# Altium integrated library Analog Devices Data Converters Digital-to-Analog Converters.IntLib: 2231 symbols (part 50 of 181)
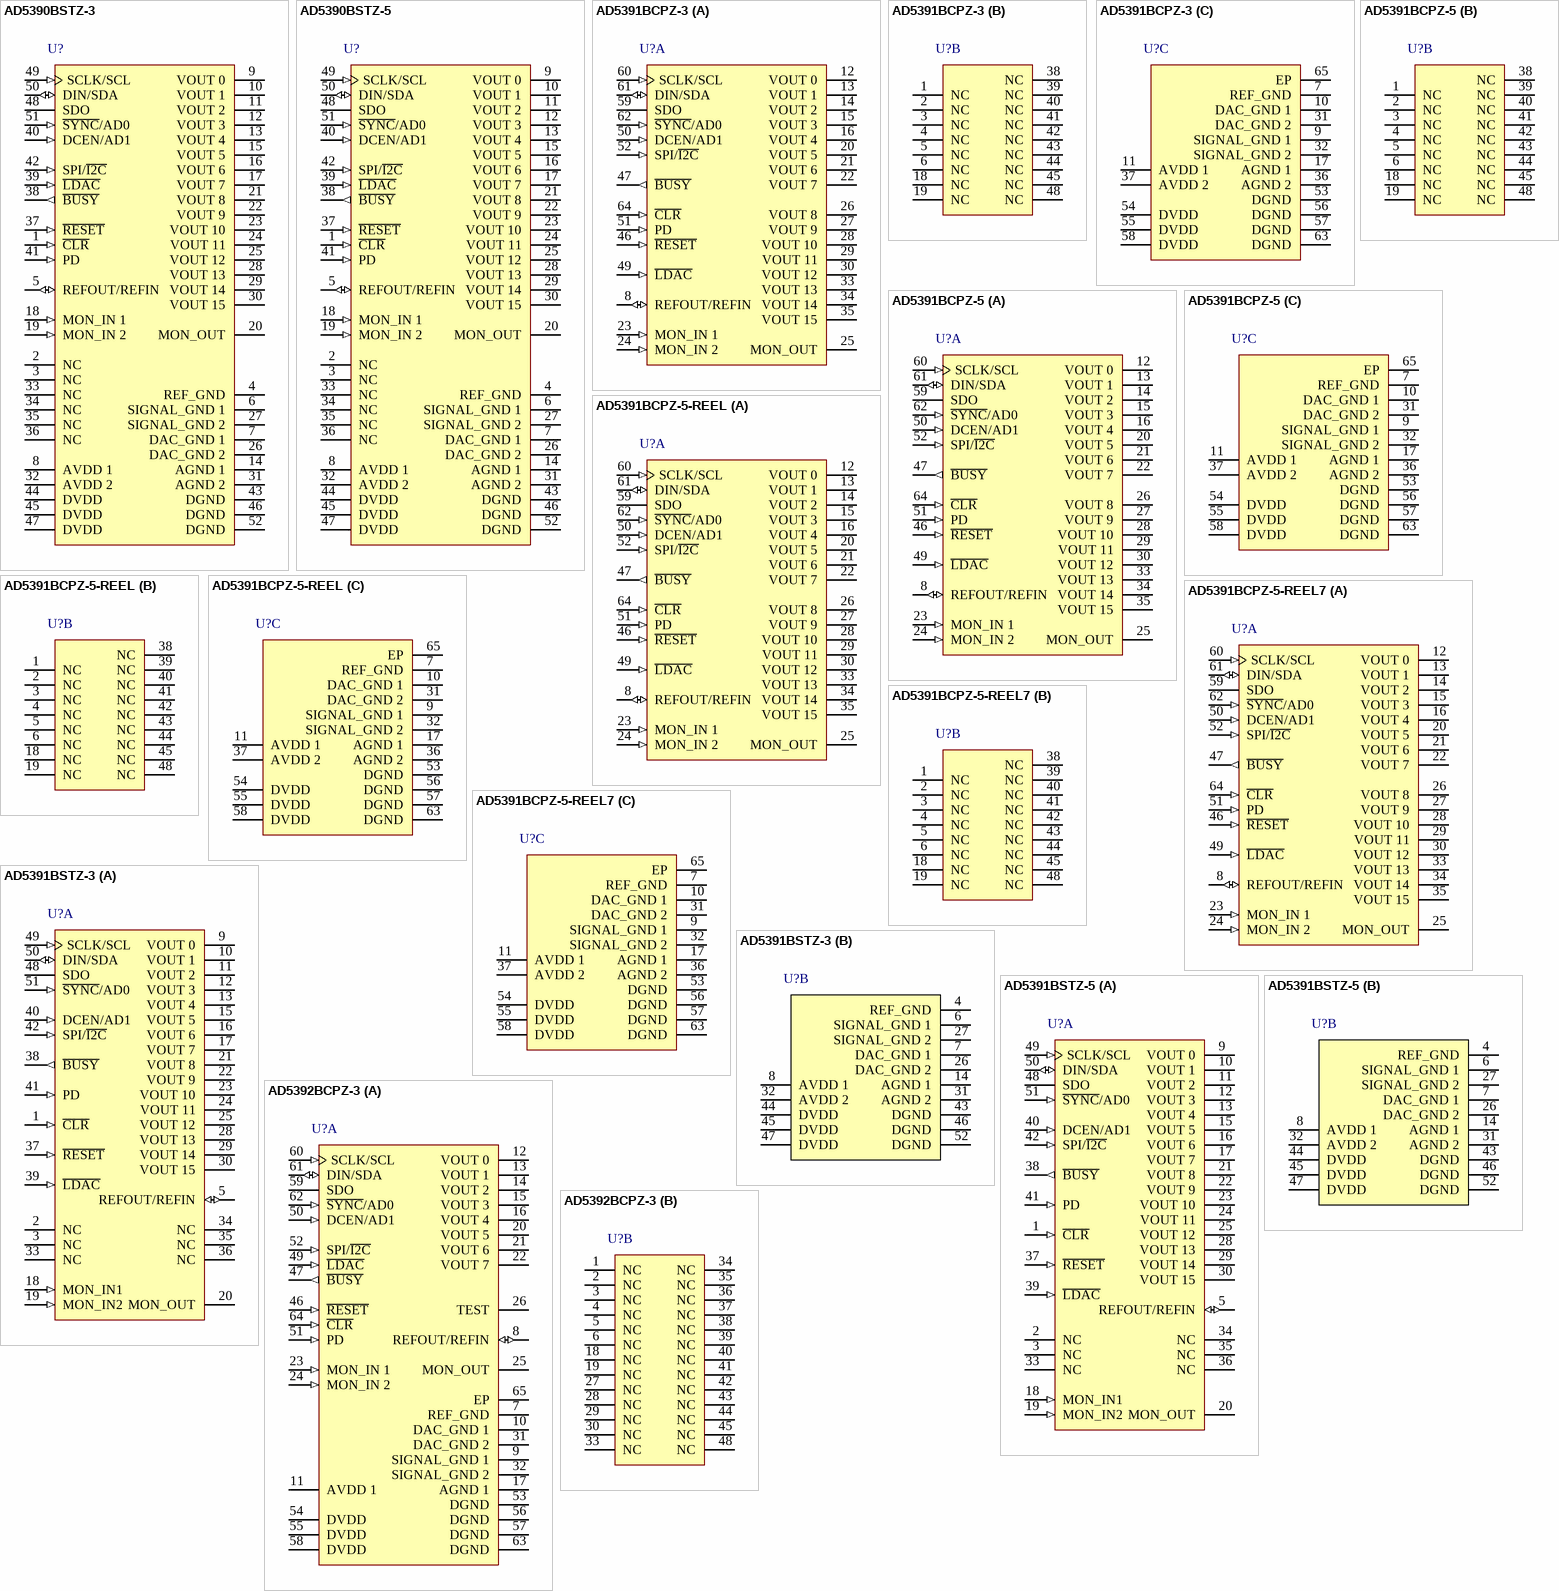
[diagram p163: symbols AD5390BSTZ-3 to AD5392BCPZ-3]

## AD5391BCPZ-5
designator U?
16 Channel 12-Bit Single-Supply Voltage Output Digital-to-Analog Converter with Serial Interface, 5 V, -40 to +85 degC, CP-64-3, Pb-Free, Tray; Generic Part Number: AD5391; Manufacturer: Analog Devices; PartNumber: AD5391BCPZ-5; # DAC Outputs: 16; Max V+: 5.5V; Resolution (Bits): 12; Settling Time: 6µs; Single Supply: Yes; DatasheetVersion: Rev. D; PackageVersion: 051007-C; PackageReference: CP-64-3; PackageDescription: 64-Lead Lead Frame Chip Scale Package [LFCSP_VQ] 9 x 9 mm Body, Very Thin Quad; Supplier 1: Digi-Key; Supplier Part Number 1: AD5391BCPZ-5-ND; Supplier 2: Farnell; Supplier Part Number 2: 1438370; Supplier 3: Newark; Supplier Part Number 3: 59K4070; Supplier 4: Mouser; Supplier Part Number 4: 584-AD5391BCPZ-5; Packing: Tray; RoHS: Y; Mounting Technology: Surface Mount; Code_JEDEC: MO-220-VMMD-4; ComponentLink1Description: Manufacturer URL; ComponentLink1URL: http://www.analog.com/en/index.html; ComponentLink2Description: Datasheet; ComponentLink2URL: http://www.analog.com/static/imported-files/data_sheets/AD5390_5391_5392.pdf; ComponentLink3Description: Package Specification; ComponentLink3URL: http://www.analog.com/static/imported-files/packages/PKG_PDF/LFCSP(CP)/CP_64_3.pdf; ComponentLink4Description: Product URL; ComponentLink4URL: http://www.analog.com/en/digital-to-analog-converters/da-converters/ad5391/products/product.html; ComponentLink5Description: Reference Design URL; ComponentLink5URL: http://www.analog.com/en/digital-to-analog-converters/da-converters/ad5391/products/product.html#prod_cross_sell
footprint CP-64-3_N (QFN, 64-Leads, Body 9x9mm, Pitch 0.5mm, Thermal Pad 7.1x7.1mm, IPC Medium Density)
footprint CP-64-3_L (QFN, 64-Leads, Body 9x9mm, Pitch 0.5mm, Thermal Pad 7.1x7.1mm, IPC High Density)
footprint CP-64-3_M (QFN, 64-Leads, Body 9x9mm, Pitch 0.5mm, Thermal Pad 7.1x7.1mm, IPC Low Density)
part A pins: 8 REFOUT/REFIN (io) "The AD5391 contains a common REFOUT/REFIN pin. When the internal reference is selected, this pin is the reference  output. If the application necessitates the use of an external reference, it can be applied to this pin and (See Datasheet)", 12 VOUT 0 (hiz) "Buffered Analog Outputs for Channel 0. Each analog output is driven by a rail-to-rail output amplifier operating at a gain  of 2. Each output is capable of driving an output load of 5 kohm to ground. Typical output impedance (See Datasheet)", 13 VOUT 1 (hiz) "Buffered Analog Outputs for Channel 1. Each analog output is driven by a rail-to-rail output amplifier operating at a gain  of 2. Each output is capable of driving an output load of 5 kohm to ground. Typical output impedance (See Datasheet)", 14 VOUT 2 (hiz) "Buffered Analog Outputs for Channel 2. Each analog output is driven by a rail-to-rail output amplifier operating at a gain  of 2. Each output is capable of driving an output load of 5 kohm to ground. Typical output impedance (See Datasheet)", 15 VOUT 3 (hiz) "Buffered Analog Outputs for Channel 3. Each analog output is driven by a rail-to-rail output amplifier operating at a gain  of 2. Each output is capable of driving an output load of 5 kohm to ground. Typical output impedance (See Datasheet)", 16 VOUT 4 (hiz) "Buffered Analog Outputs for Channel 4. Each analog output is driven by a rail-to-rail output amplifier operating at a gain  of 2. Each output is capable of driving an output load of 5 kohm to ground. Typical output impedance (See Datasheet)", 20 VOUT 5 (hiz) "Buffered Analog Outputs for Channel 5. Each analog output is driven by a rail-to-rail output amplifier operating at a gain  of 2. Each output is capable of driving an output load of 5 kohm to ground. Typical output impedance (See Datasheet)", 21 VOUT 6 (hiz) "Buffered Analog Outputs for Channel 6. Each analog output is driven by a rail-to-rail output amplifier operating at a gain  of 2. Each output is capable of driving an output load of 5 kohm to ground. Typical output impedance (See Datasheet)", 22 VOUT 7 (hiz) "Buffered Analog Outputs for Channel 7. Each analog output is driven by a rail-to-rail output amplifier operating at a gain  of 2. Each output is capable of driving an output load of 5 kohm to ground. Typical output impedance (See Datasheet)", 23 MON_IN 1 (in) "Monitor Input Pins. The AD5391 contains two monitor input pins to which the user can connect input signals (within the  maximum ratings of the device) for monitoring purposes. Any of the signals applied to the MON_IN pins (See Datasheet)", 24 MON_IN 2 (in) "Monitor Input Pins. The AD5391 contains two monitor input pins to which the user can connect input signals (within the  maximum ratings of the device) for monitoring purposes. Any of the signals applied to the MON_IN pins (See Datasheet)", 25 MON_OUT (hiz) "Analog Output Pin. When the monitor function is enabled on the AD5390/AD5391, the MON_OUT acts as the output of  a 16-to-1 channel multiplexer that can be programmed to multiplex any channel output to the MON_OUT pin. When (See Datasheet)", 26 VOUT 8 (hiz) "Buffered Analog Outputs for Channel 8. Each analog output is driven by a rail-to-rail output amplifier operating at a gain  of 2. Each output is capable of driving an output load of 5 kohm to ground. Typical output impedance (See Datasheet)", 27 VOUT 9 (hiz) "Buffered Analog Outputs for Channel 9. Each analog output is driven by a rail-to-rail output amplifier operating at a gain  of 2. Each output is capable of driving an output load of 5 kohm to ground. Typical output impedance (See Datasheet)", 28 VOUT 10 (hiz) "Buffered Analog Outputs for Channel 10. Each analog output is driven by a rail-to-rail output amplifier operating at a gain  of 2. Each output is capable of driving an output load of 5 kohm to ground. Typical output (See Datasheet)", 29 VOUT 11 (hiz) "Buffered Analog Outputs for Channel 11. Each analog output is driven by a rail-to-rail output amplifier operating at a gain  of 2. Each output is capable of driving an output load of 5 kohm to ground. Typical output (See Datasheet)", 30 VOUT 12 (hiz) "Buffered Analog Outputs for Channel 12. Each analog output is driven by a rail-to-rail output amplifier operating at a gain  of 2. Each output is capable of driving an output load of 5 kohm to ground. Typical output (See Datasheet)", 33 VOUT 13 (hiz) "Buffered Analog Outputs for Channel 13. Each analog output is driven by a rail-to-rail output amplifier operating at a gain  of 2. Each output is capable of driving an output load of 5 kohm to ground. Typical output (See Datasheet)", 34 VOUT 14 (hiz) "Buffered Analog Outputs for Channel 14. Each analog output is driven by a rail-to-rail output amplifier operating at a gain  of 2. Each output is capable of driving an output load of 5 kohm to ground. Typical output (See Datasheet)", 35 VOUT 15 (hiz) "Buffered Analog Outputs for Channel 15. Each analog output is driven by a rail-to-rail output amplifier operating at a gain  of 2. Each output is capable of driving an output load of 5 kohm to ground. Typical output (See Datasheet)", 46 ~{RESET} (in) "Asynchronous Digital Reset Input (falling edge sensitive). The function of this pin is equivalent to that of the power-on reset generator. When this pin is taken low, the state machine initiates a reset sequence to digitally (See Datasheet)", 47 ~{BUSY} (out) "Digital CMOS Output. B\U\S\Y\ goes low during internal calculations of the data (x2) loaded to the DAC data register. During this time, the user can continue writing new data to further the x1, c, and m registers (these are (See Datasheet)", 49 ~{LDAC} (in) "Load DAC Logic Input (active low). If L\D\A\C\ is taken low while B\U\S\Y\ is inactive (high), the contents of the input registers are transferred to the DAC registers and the DAC outputs are updated. If L\D\A\C\ is taken (See Datasheet)", 50 DCEN/AD1 (in) "Interface Control Pin. Operation is determined by the interface select bit SPI/I\2\C\.  Serial Interface Mode: Daisy-Chain Select Input (level-sensitive, active high). When high, this pin enables daisy-chain  operation to (See Datasheet)", 51 PD (in) "Power-Down (level-sensitive, active high). Used to place the device in low power mode, in which the device consumes  1 uA analog current and 20 uA digital current. In power-down mode, all internal analog circuitry is placed (See Datasheet)", 52 SPI/~{I2C} (in) "Interface Select Input Pin. When this input is low, I2C mode is selected. When this input is high, SPI mode is selected.", 59 SDO (hiz) "Serial Data Output. Three-state CMOS output. SDO can be used for daisy-chaining a number of devices together. Data is  clocked out on SDO on the rising edge of SCLK and is valid on the falling edge of SCLK.", 60 SCLK/SCL (in) "Interface Clock Input Pin. In SPI-compatible serial interface mode, this pin acts as a serial clock input. It operates at clock  speeds up to 50 MHz.  I2C mode: In I2C mode, this pin performs the SCL function, clocking data (See Datasheet)", 61 DIN/SDA (io) "Interface Data Input Pin. SPI/I\2\C\ = 1: This pin acts as the serial data input. Data must be valid on the falling edge of SCLK. SPI/I\2\C\ = 0, I2C mode: In I2C mode, this pin is the serial data pin (SDA) operating as an (See Datasheet)", 62 ~{SYNC}/AD0 (in) "Serial Interface Pin. This is the frame synchronization input signal for the serial interface. When taken low, the internal  counter is enabled to count the required number of clocks before the addressed register is updated. (See Datasheet)", 64 ~{CLR} (in) "Asynchronous Clear Input. The C\L\R\ input is falling edge sensitive. While C\L\R\ is low, all L\D\A\C\ pulses are ignored. When C\L\R\ is activated, all channels are updated with the data contained in the C\L\R\ code (See Datasheet)"
part B pins: 1 NC "No Connect. These pins have no internal connection.", 2 NC "No Connect. These pins have no internal connection.", 3 NC "No Connect. These pins have no internal connection.", 4 NC "No Connect. These pins have no internal connection.", 5 NC "No Connect. These pins have no internal connection.", 6 NC "No Connect. These pins have no internal connection.", 18 NC "No Connect. These pins have no internal connection.", 19 NC "No Connect. These pins have no internal connection.", 38 NC "No Connect. These pins have no internal connection.", 39 NC "No Connect. These pins have no internal connection.", 40 NC "No Connect. These pins have no internal connection.", 41 NC "No Connect. These pins have no internal connection.", 42 NC "No Connect. These pins have no internal connection.", 43 NC "No Connect. These pins have no internal connection.", 44 NC "No Connect. These pins have no internal connection.", 45 NC "No Connect. These pins have no internal connection.", 48 NC "No Connect. These pins have no internal connection."
part C pins: 7 REF_GND (power) "Ground Reference Point for the Internal Reference. Connect to AGND.", 9 SIGNAL_GND 1 (power) "Analog Ground Reference Points for each group of eight output channels. All SIGNAL_GND pins are tied together  internally and should be connected to the AGND plane as close as possible to the AD5391.", 10 DAC_GND 1 (power) "Each group of eight channels contains a DAC_GND pin. This is the ground reference point for the internal 14-bit DACs.  These pins should be connected to the AGND plane.", 11 AVDD 1 (power) "Analog Supply Pins. Each group of eight channels has a separate AVDD pin. These pins should be decoupled with 0.1 uF  ceramic capacitors and 10 µF tantalum capacitors. Operating range is 5 V +/- 10%.", 17 AGND 1 (power) "Analog Ground Reference Point. Each group of eight channels contains an AGND pin. All AGND pins should be  connected externally to the AGND plane.", 31 DAC_GND 2 (power) "Each group of eight channels contains a DAC_GND pin. This is the ground reference point for the internal 14-bit DACs.  These pins should be connected to the AGND plane.", 32 SIGNAL_GND 2 (power) "Analog Ground Reference Points for each group of eight output channels. All SIGNAL_GND pins are tied together  internally and should be connected to the AGND plane as close as possible to the AD5391.", 36 AGND 2 (power) "Analog Ground Reference Point. Each group of eight channels contains an AGND pin. All AGND pins should be  connected externally to the AGND plane.", 37 AVDD 2 (power) "Analog Supply Pins. Each group of eight channels has a separate AVDD pin. These pins should be decoupled with 0.1 uF  ceramic capacitors and 10 µF tantalum capacitors. Operating range is 5 V +/- 10%.", 53 DGND (power) "Ground for All Digital Circuitry.", 54 DVDD (power) "Logic Power Supply. Guaranteed operating range is 2.7 V to 5.5 V. Recommended that these pins be decoupled with  0.1 uF ceramic capacitors and 10 uF tantalum capacitors to DGND.", 55 DVDD (power) "Logic Power Supply. Guaranteed operating range is 2.7 V to 5.5 V. Recommended that these pins be decoupled with  0.1 uF ceramic capacitors and 10 uF tantalum capacitors to DGND.", 56 DGND (power) "Ground for All Digital Circuitry.", 57 DGND (power) "Ground for All Digital Circuitry.", 58 DVDD (power) "Logic Power Supply. Guaranteed operating range is 2.7 V to 5.5 V. Recommended that these pins be decoupled with  0.1 µF ceramic capacitors and 10 µF tantalum capacitors to DGND.", 63 DGND (power) "Ground for All Digital Circuitry.", 65 EP (power) "This pad should be connected to the ground plane."

## AD5391BCPZ-5-REEL
designator U?
16 Channel 12-Bit Single-Supply Voltage Output Digital-to-Analog Converter with Serial Interface, 5 V, -40 to +85 degC, CP-64-3, Pb-Free, Reel; Generic Part Number: AD5391; Manufacturer: Analog Devices; PartNumber: AD5391BCPZ-5-REEL; # DAC Outputs: 16; Max V+: 5.5V; Resolution (Bits): 12; Settling Time: 6µs; Single Supply: Yes; DatasheetVersion: Rev. D; PackageVersion: 051007-C; PackageReference: CP-64-3; PackageDescription: 64-Lead Lead Frame Chip Scale Package [LFCSP_VQ] 9 x 9 mm Body, Very Thin Quad; Supplier 1: Digi-Key; Supplier Part Number 1: AD5391BCPZ-5-REEL-ND; Supplier 2: Mouser; Supplier Part Number 2: 584-AD5391BCPZ-5-R; Packing: Reel; RoHS: Y; Mounting Technology: Surface Mount; Code_JEDEC: MO-220-VMMD-4; ComponentLink1Description: Manufacturer URL; ComponentLink1URL: http://www.analog.com/en/index.html; ComponentLink2Description: Datasheet; ComponentLink2URL: http://www.analog.com/static/imported-files/data_sheets/AD5390_5391_5392.pdf; ComponentLink3Description: Package Specification; ComponentLink3URL: http://www.analog.com/static/imported-files/packages/PKG_PDF/LFCSP(CP)/CP_64_3.pdf; ComponentLink4Description: Product URL; ComponentLink4URL: http://www.analog.com/en/digital-to-analog-converters/da-converters/ad5391/products/product.html; ComponentLink5Description: Reference Design URL; ComponentLink5URL: http://www.analog.com/en/digital-to-analog-converters/da-converters/ad5391/products/product.html#prod_cross_sell
footprint CP-64-3_N (QFN, 64-Leads, Body 9x9mm, Pitch 0.5mm, Thermal Pad 7.1x7.1mm, IPC Medium Density)
footprint CP-64-3_L (QFN, 64-Leads, Body 9x9mm, Pitch 0.5mm, Thermal Pad 7.1x7.1mm, IPC High Density)
footprint CP-64-3_M (QFN, 64-Leads, Body 9x9mm, Pitch 0.5mm, Thermal Pad 7.1x7.1mm, IPC Low Density)
part A pins: 8 REFOUT/REFIN (io) "The AD5391 contains a common REFOUT/REFIN pin. When the internal reference is selected, this pin is the reference  output. If the application necessitates the use of an external reference, it can be applied to this pin and (See Datasheet)", 12 VOUT 0 (hiz) "Buffered Analog Outputs for Channel 0. Each analog output is driven by a rail-to-rail output amplifier operating at a gain  of 2. Each output is capable of driving an output load of 5 kohm to ground. Typical output impedance (See Datasheet)", 13 VOUT 1 (hiz) "Buffered Analog Outputs for Channel 1. Each analog output is driven by a rail-to-rail output amplifier operating at a gain  of 2. Each output is capable of driving an output load of 5 kohm to ground. Typical output impedance (See Datasheet)", 14 VOUT 2 (hiz) "Buffered Analog Outputs for Channel 2. Each analog output is driven by a rail-to-rail output amplifier operating at a gain  of 2. Each output is capable of driving an output load of 5 kohm to ground. Typical output impedance (See Datasheet)", 15 VOUT 3 (hiz) "Buffered Analog Outputs for Channel 3. Each analog output is driven by a rail-to-rail output amplifier operating at a gain  of 2. Each output is capable of driving an output load of 5 kohm to ground. Typical output impedance (See Datasheet)", 16 VOUT 4 (hiz) "Buffered Analog Outputs for Channel 4. Each analog output is driven by a rail-to-rail output amplifier operating at a gain  of 2. Each output is capable of driving an output load of 5 kohm to ground. Typical output impedance (See Datasheet)", 20 VOUT 5 (hiz) "Buffered Analog Outputs for Channel 5. Each analog output is driven by a rail-to-rail output amplifier operating at a gain  of 2. Each output is capable of driving an output load of 5 kohm to ground. Typical output impedance (See Datasheet)", 21 VOUT 6 (hiz) "Buffered Analog Outputs for Channel 6. Each analog output is driven by a rail-to-rail output amplifier operating at a gain  of 2. Each output is capable of driving an output load of 5 kohm to ground. Typical output impedance (See Datasheet)", 22 VOUT 7 (hiz) "Buffered Analog Outputs for Channel 7. Each analog output is driven by a rail-to-rail output amplifier operating at a gain  of 2. Each output is capable of driving an output load of 5 kohm to ground. Typical output impedance (See Datasheet)", 23 MON_IN 1 (in) "Monitor Input Pins. The AD5391 contains two monitor input pins to which the user can connect input signals (within the  maximum ratings of the device) for monitoring purposes. Any of the signals applied to the MON_IN pins (See Datasheet)", 24 MON_IN 2 (in) "Monitor Input Pins. The AD5391 contains two monitor input pins to which the user can connect input signals (within the  maximum ratings of the device) for monitoring purposes. Any of the signals applied to the MON_IN pins (See Datasheet)", 25 MON_OUT (hiz) "Analog Output Pin. When the monitor function is enabled on the AD5390/AD5391, the MON_OUT acts as the output of  a 16-to-1 channel multiplexer that can be programmed to multiplex any channel output to the MON_OUT pin. When (See Datasheet)", 26 VOUT 8 (hiz) "Buffered Analog Outputs for Channel 8. Each analog output is driven by a rail-to-rail output amplifier operating at a gain  of 2. Each output is capable of driving an output load of 5 kohm to ground. Typical output impedance (See Datasheet)", 27 VOUT 9 (hiz) "Buffered Analog Outputs for Channel 9. Each analog output is driven by a rail-to-rail output amplifier operating at a gain  of 2. Each output is capable of driving an output load of 5 kohm to ground. Typical output impedance (See Datasheet)", 28 VOUT 10 (hiz) "Buffered Analog Outputs for Channel 10. Each analog output is driven by a rail-to-rail output amplifier operating at a gain  of 2. Each output is capable of driving an output load of 5 kohm to ground. Typical output (See Datasheet)", 29 VOUT 11 (hiz) "Buffered Analog Outputs for Channel 11. Each analog output is driven by a rail-to-rail output amplifier operating at a gain  of 2. Each output is capable of driving an output load of 5 kohm to ground. Typical output (See Datasheet)", 30 VOUT 12 (hiz) "Buffered Analog Outputs for Channel 12. Each analog output is driven by a rail-to-rail output amplifier operating at a gain  of 2. Each output is capable of driving an output load of 5 kohm to ground. Typical output (See Datasheet)", 33 VOUT 13 (hiz) "Buffered Analog Outputs for Channel 13. Each analog output is driven by a rail-to-rail output amplifier operating at a gain  of 2. Each output is capable of driving an output load of 5 kohm to ground. Typical output (See Datasheet)", 34 VOUT 14 (hiz) "Buffered Analog Outputs for Channel 14. Each analog output is driven by a rail-to-rail output amplifier operating at a gain  of 2. Each output is capable of driving an output load of 5 kohm to ground. Typical output (See Datasheet)", 35 VOUT 15 (hiz) "Buffered Analog Outputs for Channel 15. Each analog output is driven by a rail-to-rail output amplifier operating at a gain  of 2. Each output is capable of driving an output load of 5 kohm to ground. Typical output (See Datasheet)", 46 ~{RESET} (in) "Asynchronous Digital Reset Input (falling edge sensitive). The function of this pin is equivalent to that of the power-on reset generator. When this pin is taken low, the state machine initiates a reset sequence to digitally (See Datasheet)", 47 ~{BUSY} (out) "Digital CMOS Output. B\U\S\Y\ goes low during internal calculations of the data (x2) loaded to the DAC data register. During this time, the user can continue writing new data to further the x1, c, and m registers (these are (See Datasheet)", 49 ~{LDAC} (in) "Load DAC Logic Input (active low). If L\D\A\C\ is taken low while B\U\S\Y\ is inactive (high), the contents of the input registers are transferred to the DAC registers and the DAC outputs are updated. If L\D\A\C\ is taken (See Datasheet)", 50 DCEN/AD1 (in) "Interface Control Pin. Operation is determined by the interface select bit SPI/I\2\C\.  Serial Interface Mode: Daisy-Chain Select Input (level-sensitive, active high). When high, this pin enables daisy-chain  operation to (See Datasheet)", 51 PD (in) "Power-Down (level-sensitive, active high). Used to place the device in low power mode, in which the device consumes  1 uA analog current and 20 uA digital current. In power-down mode, all internal analog circuitry is placed (See Datasheet)", 52 SPI/~{I2C} (in) "Interface Select Input Pin. When this input is low, I2C mode is selected. When this input is high, SPI mode is selected.", 59 SDO (hiz) "Serial Data Output. Three-state CMOS output. SDO can be used for daisy-chaining a number of devices together. Data is  clocked out on SDO on the rising edge of SCLK and is valid on the falling edge of SCLK.", 60 SCLK/SCL (in) "Interface Clock Input Pin. In SPI-compatible serial interface mode, this pin acts as a serial clock input. It operates at clock  speeds up to 50 MHz.  I2C mode: In I2C mode, this pin performs the SCL function, clocking data (See Datasheet)", 61 DIN/SDA (io) "Interface Data Input Pin. SPI/I\2\C\ = 1: This pin acts as the serial data input. Data must be valid on the falling edge of SCLK. SPI/I\2\C\ = 0, I2C mode: In I2C mode, this pin is the serial data pin (SDA) operating as an (See Datasheet)", 62 ~{SYNC}/AD0 (in) "Serial Interface Pin. This is the frame synchronization input signal for the serial interface. When taken low, the internal  counter is enabled to count the required number of clocks before the addressed register is updated. (See Datasheet)", 64 ~{CLR} (in) "Asynchronous Clear Input. The C\L\R\ input is falling edge sensitive. While C\L\R\ is low, all L\D\A\C\ pulses are ignored. When C\L\R\ is activated, all channels are updated with the data contained in the C\L\R\ code (See Datasheet)"
part B pins: 1 NC "No Connect. These pins have no internal connection.", 2 NC "No Connect. These pins have no internal connection.", 3 NC "No Connect. These pins have no internal connection.", 4 NC "No Connect. These pins have no internal connection.", 5 NC "No Connect. These pins have no internal connection.", 6 NC "No Connect. These pins have no internal connection.", 18 NC "No Connect. These pins have no internal connection.", 19 NC "No Connect. These pins have no internal connection.", 38 NC "No Connect. These pins have no internal connection.", 39 NC "No Connect. These pins have no internal connection.", 40 NC "No Connect. These pins have no internal connection.", 41 NC "No Connect. These pins have no internal connection.", 42 NC "No Connect. These pins have no internal connection.", 43 NC "No Connect. These pins have no internal connection.", 44 NC "No Connect. These pins have no internal connection.", 45 NC "No Connect. These pins have no internal connection.", 48 NC "No Connect. These pins have no internal connection."
part C pins: 7 REF_GND (power) "Ground Reference Point for the Internal Reference. Connect to AGND.", 9 SIGNAL_GND 1 (power) "Analog Ground Reference Points for each group of eight output channels. All SIGNAL_GND pins are tied together  internally and should be connected to the AGND plane as close as possible to the AD5391.", 10 DAC_GND 1 (power) "Each group of eight channels contains a DAC_GND pin. This is the ground reference point for the internal 14-bit DACs.  These pins should be connected to the AGND plane.", 11 AVDD 1 (power) "Analog Supply Pins. Each group of eight channels has a separate AVDD pin. These pins should be decoupled with 0.1 uF  ceramic capacitors and 10 µF tantalum capacitors. Operating range is 5 V +/- 10%.", 17 AGND 1 (power) "Analog Ground Reference Point. Each group of eight channels contains an AGND pin. All AGND pins should be  connected externally to the AGND plane.", 31 DAC_GND 2 (power) "Each group of eight channels contains a DAC_GND pin. This is the ground reference point for the internal 14-bit DACs.  These pins should be connected to the AGND plane.", 32 SIGNAL_GND 2 (power) "Analog Ground Reference Points for each group of eight output channels. All SIGNAL_GND pins are tied together  internally and should be connected to the AGND plane as close as possible to the AD5391.", 36 AGND 2 (power) "Analog Ground Reference Point. Each group of eight channels contains an AGND pin. All AGND pins should be  connected externally to the AGND plane.", 37 AVDD 2 (power) "Analog Supply Pins. Each group of eight channels has a separate AVDD pin. These pins should be decoupled with 0.1 uF  ceramic capacitors and 10 µF tantalum capacitors. Operating range is 5 V +/- 10%.", 53 DGND (power) "Ground for All Digital Circuitry.", 54 DVDD (power) "Logic Power Supply. Guaranteed operating range is 2.7 V to 5.5 V. Recommended that these pins be decoupled with  0.1 uF ceramic capacitors and 10 uF tantalum capacitors to DGND.", 55 DVDD (power) "Logic Power Supply. Guaranteed operating range is 2.7 V to 5.5 V. Recommended that these pins be decoupled with  0.1 uF ceramic capacitors and 10 uF tantalum capacitors to DGND.", 56 DGND (power) "Ground for All Digital Circuitry.", 57 DGND (power) "Ground for All Digital Circuitry.", 58 DVDD (power) "Logic Power Supply. Guaranteed operating range is 2.7 V to 5.5 V. Recommended that these pins be decoupled with  0.1 µF ceramic capacitors and 10 µF tantalum capacitors to DGND.", 63 DGND (power) "Ground for All Digital Circuitry.", 65 EP (power) "This pad should be connected to the ground plane."

## AD5391BCPZ-5-REEL7
designator U?
16 Channel 12-Bit Single-Supply Voltage Output Digital-to-Analog Converter with Serial Interface, 5 V, -40 to +85 degC, CP-64-3, Pb-Free, Reel; Generic Part Number: AD5391; Manufacturer: Analog Devices; PartNumber: AD5391BCPZ-5-REEL7; # DAC Outputs: 16; Max V+: 5.5V; Resolution (Bits): 12; Settling Time: 6µs; Single Supply: Yes; DatasheetVersion: Rev. D; PackageVersion: 051007-C; PackageReference: CP-64-3; PackageDescription: 64-Lead Lead Frame Chip Scale Package [LFCSP_VQ] 9 x 9 mm Body, Very Thin Quad; Supplier 1: Digi-Key; Supplier Part Number 1: AD5391BCPZ-5-REEL7-ND; Supplier 2: Newark; Supplier Part Number 2: 59K4072; Supplier 3: Mouser; Supplier Part Number 3: 584-AD5391BCPZ5-R7; Packing: Reel; RoHS: Y; Mounting Technology: Surface Mount; Code_JEDEC: MO-220-VMMD-4; ComponentLink1Description: Manufacturer URL; ComponentLink1URL: http://www.analog.com/en/index.html; ComponentLink2Description: Datasheet; ComponentLink2URL: http://www.analog.com/static/imported-files/data_sheets/AD5390_5391_5392.pdf; ComponentLink3Description: Package Specification; ComponentLink3URL: http://www.analog.com/static/imported-files/packages/PKG_PDF/LFCSP(CP)/CP_64_3.pdf; ComponentLink4Description: Product URL; ComponentLink4URL: http://www.analog.com/en/digital-to-analog-converters/da-converters/ad5391/products/product.html; ComponentLink5Description: Reference Design URL; ComponentLink5URL: http://www.analog.com/en/digital-to-analog-converters/da-converters/ad5391/products/product.html#prod_cross_sell
footprint CP-64-3_N (QFN, 64-Leads, Body 9x9mm, Pitch 0.5mm, Thermal Pad 7.1x7.1mm, IPC Medium Density)
footprint CP-64-3_L (QFN, 64-Leads, Body 9x9mm, Pitch 0.5mm, Thermal Pad 7.1x7.1mm, IPC High Density)
footprint CP-64-3_M (QFN, 64-Leads, Body 9x9mm, Pitch 0.5mm, Thermal Pad 7.1x7.1mm, IPC Low Density)
part A pins: 8 REFOUT/REFIN (io) "The AD5391 contains a common REFOUT/REFIN pin. When the internal reference is selected, this pin is the reference  output. If the application necessitates the use of an external reference, it can be applied to this pin and (See Datasheet)", 12 VOUT 0 (hiz) "Buffered Analog Outputs for Channel 0. Each analog output is driven by a rail-to-rail output amplifier operating at a gain  of 2. Each output is capable of driving an output load of 5 kohm to ground. Typical output impedance (See Datasheet)", 13 VOUT 1 (hiz) "Buffered Analog Outputs for Channel 1. Each analog output is driven by a rail-to-rail output amplifier operating at a gain  of 2. Each output is capable of driving an output load of 5 kohm to ground. Typical output impedance (See Datasheet)", 14 VOUT 2 (hiz) "Buffered Analog Outputs for Channel 2. Each analog output is driven by a rail-to-rail output amplifier operating at a gain  of 2. Each output is capable of driving an output load of 5 kohm to ground. Typical output impedance (See Datasheet)", 15 VOUT 3 (hiz) "Buffered Analog Outputs for Channel 3. Each analog output is driven by a rail-to-rail output amplifier operating at a gain  of 2. Each output is capable of driving an output load of 5 kohm to ground. Typical output impedance (See Datasheet)", 16 VOUT 4 (hiz) "Buffered Analog Outputs for Channel 4. Each analog output is driven by a rail-to-rail output amplifier operating at a gain  of 2. Each output is capable of driving an output load of 5 kohm to ground. Typical output impedance (See Datasheet)", 20 VOUT 5 (hiz) "Buffered Analog Outputs for Channel 5. Each analog output is driven by a rail-to-rail output amplifier operating at a gain  of 2. Each output is capable of driving an output load of 5 kohm to ground. Typical output impedance (See Datasheet)", 21 VOUT 6 (hiz) "Buffered Analog Outputs for Channel 6. Each analog output is driven by a rail-to-rail output amplifier operating at a gain  of 2. Each output is capable of driving an output load of 5 kohm to ground. Typical output impedance (See Datasheet)", 22 VOUT 7 (hiz) "Buffered Analog Outputs for Channel 7. Each analog output is driven by a rail-to-rail output amplifier operating at a gain  of 2. Each output is capable of driving an output load of 5 kohm to ground. Typical output impedance (See Datasheet)", 23 MON_IN 1 (in) "Monitor Input Pins. The AD5391 contains two monitor input pins to which the user can connect input signals (within the  maximum ratings of the device) for monitoring purposes. Any of the signals applied to the MON_IN pins (See Datasheet)", 24 MON_IN 2 (in) "Monitor Input Pins. The AD5391 contains two monitor input pins to which the user can connect input signals (within the  maximum ratings of the device) for monitoring purposes. Any of the signals applied to the MON_IN pins (See Datasheet)", 25 MON_OUT (hiz) "Analog Output Pin. When the monitor function is enabled on the AD5390/AD5391, the MON_OUT acts as the output of  a 16-to-1 channel multiplexer that can be programmed to multiplex any channel output to the MON_OUT pin. When (See Datasheet)", 26 VOUT 8 (hiz) "Buffered Analog Outputs for Channel 8. Each analog output is driven by a rail-to-rail output amplifier operating at a gain  of 2. Each output is capable of driving an output load of 5 kohm to ground. Typical output impedance (See Datasheet)", 27 VOUT 9 (hiz) "Buffered Analog Outputs for Channel 9. Each analog output is driven by a rail-to-rail output amplifier operating at a gain  of 2. Each output is capable of driving an output load of 5 kohm to ground. Typical output impedance (See Datasheet)", 28 VOUT 10 (hiz) "Buffered Analog Outputs for Channel 10. Each analog output is driven by a rail-to-rail output amplifier operating at a gain  of 2. Each output is capable of driving an output load of 5 kohm to ground. Typical output (See Datasheet)", 29 VOUT 11 (hiz) "Buffered Analog Outputs for Channel 11. Each analog output is driven by a rail-to-rail output amplifier operating at a gain  of 2. Each output is capable of driving an output load of 5 kohm to ground. Typical output (See Datasheet)", 30 VOUT 12 (hiz) "Buffered Analog Outputs for Channel 12. Each analog output is driven by a rail-to-rail output amplifier operating at a gain  of 2. Each output is capable of driving an output load of 5 kohm to ground. Typical output (See Datasheet)", 33 VOUT 13 (hiz) "Buffered Analog Outputs for Channel 13. Each analog output is driven by a rail-to-rail output amplifier operating at a gain  of 2. Each output is capable of driving an output load of 5 kohm to ground. Typical output (See Datasheet)", 34 VOUT 14 (hiz) "Buffered Analog Outputs for Channel 14. Each analog output is driven by a rail-to-rail output amplifier operating at a gain  of 2. Each output is capable of driving an output load of 5 kohm to ground. Typical output (See Datasheet)", 35 VOUT 15 (hiz) "Buffered Analog Outputs for Channel 15. Each analog output is driven by a rail-to-rail output amplifier operating at a gain  of 2. Each output is capable of driving an output load of 5 kohm to ground. Typical output (See Datasheet)", 46 ~{RESET} (in) "Asynchronous Digital Reset Input (falling edge sensitive). The function of this pin is equivalent to that of the power-on reset generator. When this pin is taken low, the state machine initiates a reset sequence to digitally (See Datasheet)", 47 ~{BUSY} (out) "Digital CMOS Output. B\U\S\Y\ goes low during internal calculations of the data (x2) loaded to the DAC data register. During this time, the user can continue writing new data to further the x1, c, and m registers (these are (See Datasheet)", 49 ~{LDAC} (in) "Load DAC Logic Input (active low). If L\D\A\C\ is taken low while B\U\S\Y\ is inactive (high), the contents of the input registers are transferred to the DAC registers and the DAC outputs are updated. If L\D\A\C\ is taken (See Datasheet)", 50 DCEN/AD1 (in) "Interface Control Pin. Operation is determined by the interface select bit SPI/I\2\C\.  Serial Interface Mode: Daisy-Chain Select Input (level-sensitive, active high). When high, this pin enables daisy-chain  operation to (See Datasheet)", 51 PD (in) "Power-Down (level-sensitive, active high). Used to place the device in low power mode, in which the device consumes  1 uA analog current and 20 uA digital current. In power-down mode, all internal analog circuitry is placed (See Datasheet)", 52 SPI/~{I2C} (in) "Interface Select Input Pin. When this input is low, I2C mode is selected. When this input is high, SPI mode is selected.", 59 SDO (hiz) "Serial Data Output. Three-state CMOS output. SDO can be used for daisy-chaining a number of devices together. Data is  clocked out on SDO on the rising edge of SCLK and is valid on the falling edge of SCLK.", 60 SCLK/SCL (in) "Interface Clock Input Pin. In SPI-compatible serial interface mode, this pin acts as a serial clock input. It operates at clock  speeds up to 50 MHz.  I2C mode: In I2C mode, this pin performs the SCL function, clocking data (See Datasheet)", 61 DIN/SDA (io) "Interface Data Input Pin. SPI/I\2\C\ = 1: This pin acts as the serial data input. Data must be valid on the falling edge of SCLK. SPI/I\2\C\ = 0, I2C mode: In I2C mode, this pin is the serial data pin (SDA) operating as an (See Datasheet)", 62 ~{SYNC}/AD0 (in) "Serial Interface Pin. This is the frame synchronization input signal for the serial interface. When taken low, the internal  counter is enabled to count the required number of clocks before the addressed register is updated. (See Datasheet)", 64 ~{CLR} (in) "Asynchronous Clear Input. The C\L\R\ input is falling edge sensitive. While C\L\R\ is low, all L\D\A\C\ pulses are ignored. When C\L\R\ is activated, all channels are updated with the data contained in the C\L\R\ code (See Datasheet)"
part B pins: 1 NC "No Connect. These pins have no internal connection.", 2 NC "No Connect. These pins have no internal connection.", 3 NC "No Connect. These pins have no internal connection.", 4 NC "No Connect. These pins have no internal connection.", 5 NC "No Connect. These pins have no internal connection.", 6 NC "No Connect. These pins have no internal connection.", 18 NC "No Connect. These pins have no internal connection.", 19 NC "No Connect. These pins have no internal connection.", 38 NC "No Connect. These pins have no internal connection.", 39 NC "No Connect. These pins have no internal connection.", 40 NC "No Connect. These pins have no internal connection.", 41 NC "No Connect. These pins have no internal connection.", 42 NC "No Connect. These pins have no internal connection.", 43 NC "No Connect. These pins have no internal connection.", 44 NC "No Connect. These pins have no internal connection.", 45 NC "No Connect. These pins have no internal connection.", 48 NC "No Connect. These pins have no internal connection."
part C pins: 7 REF_GND (power) "Ground Reference Point for the Internal Reference. Connect to AGND.", 9 SIGNAL_GND 1 (power) "Analog Ground Reference Points for each group of eight output channels. All SIGNAL_GND pins are tied together  internally and should be connected to the AGND plane as close as possible to the AD5391.", 10 DAC_GND 1 (power) "Each group of eight channels contains a DAC_GND pin. This is the ground reference point for the internal 14-bit DACs.  These pins should be connected to the AGND plane.", 11 AVDD 1 (power) "Analog Supply Pins. Each group of eight channels has a separate AVDD pin. These pins should be decoupled with 0.1 uF  ceramic capacitors and 10 µF tantalum capacitors. Operating range is 5 V +/- 10%.", 17 AGND 1 (power) "Analog Ground Reference Point. Each group of eight channels contains an AGND pin. All AGND pins should be  connected externally to the AGND plane.", 31 DAC_GND 2 (power) "Each group of eight channels contains a DAC_GND pin. This is the ground reference point for the internal 14-bit DACs.  These pins should be connected to the AGND plane.", 32 SIGNAL_GND 2 (power) "Analog Ground Reference Points for each group of eight output channels. All SIGNAL_GND pins are tied together  internally and should be connected to the AGND plane as close as possible to the AD5391.", 36 AGND 2 (power) "Analog Ground Reference Point. Each group of eight channels contains an AGND pin. All AGND pins should be  connected externally to the AGND plane.", 37 AVDD 2 (power) "Analog Supply Pins. Each group of eight channels has a separate AVDD pin. These pins should be decoupled with 0.1 uF  ceramic capacitors and 10 µF tantalum capacitors. Operating range is 5 V +/- 10%.", 53 DGND (power) "Ground for All Digital Circuitry.", 54 DVDD (power) "Logic Power Supply. Guaranteed operating range is 2.7 V to 5.5 V. Recommended that these pins be decoupled with  0.1 uF ceramic capacitors and 10 uF tantalum capacitors to DGND.", 55 DVDD (power) "Logic Power Supply. Guaranteed operating range is 2.7 V to 5.5 V. Recommended that these pins be decoupled with  0.1 uF ceramic capacitors and 10 uF tantalum capacitors to DGND.", 56 DGND (power) "Ground for All Digital Circuitry.", 57 DGND (power) "Ground for All Digital Circuitry.", 58 DVDD (power) "Logic Power Supply. Guaranteed operating range is 2.7 V to 5.5 V. Recommended that these pins be decoupled with  0.1 µF ceramic capacitors and 10 µF tantalum capacitors to DGND.", 63 DGND (power) "Ground for All Digital Circuitry.", 65 EP (power) "This pad should be connected to the ground plane."